# Altium footprint library lab_1_kapustin_usb_spi.PcbLib: 13 footprints
Each footprint in its own frame and in the unit in brackets; x right, y up, seen from the top. Pads: shape width x height; smd on the part's side, far side on the other; paste and mask are expansions set on the pad; w line width, h text height; cw(c..) or ccw(c..) is an arc to the next point about the centre after c.
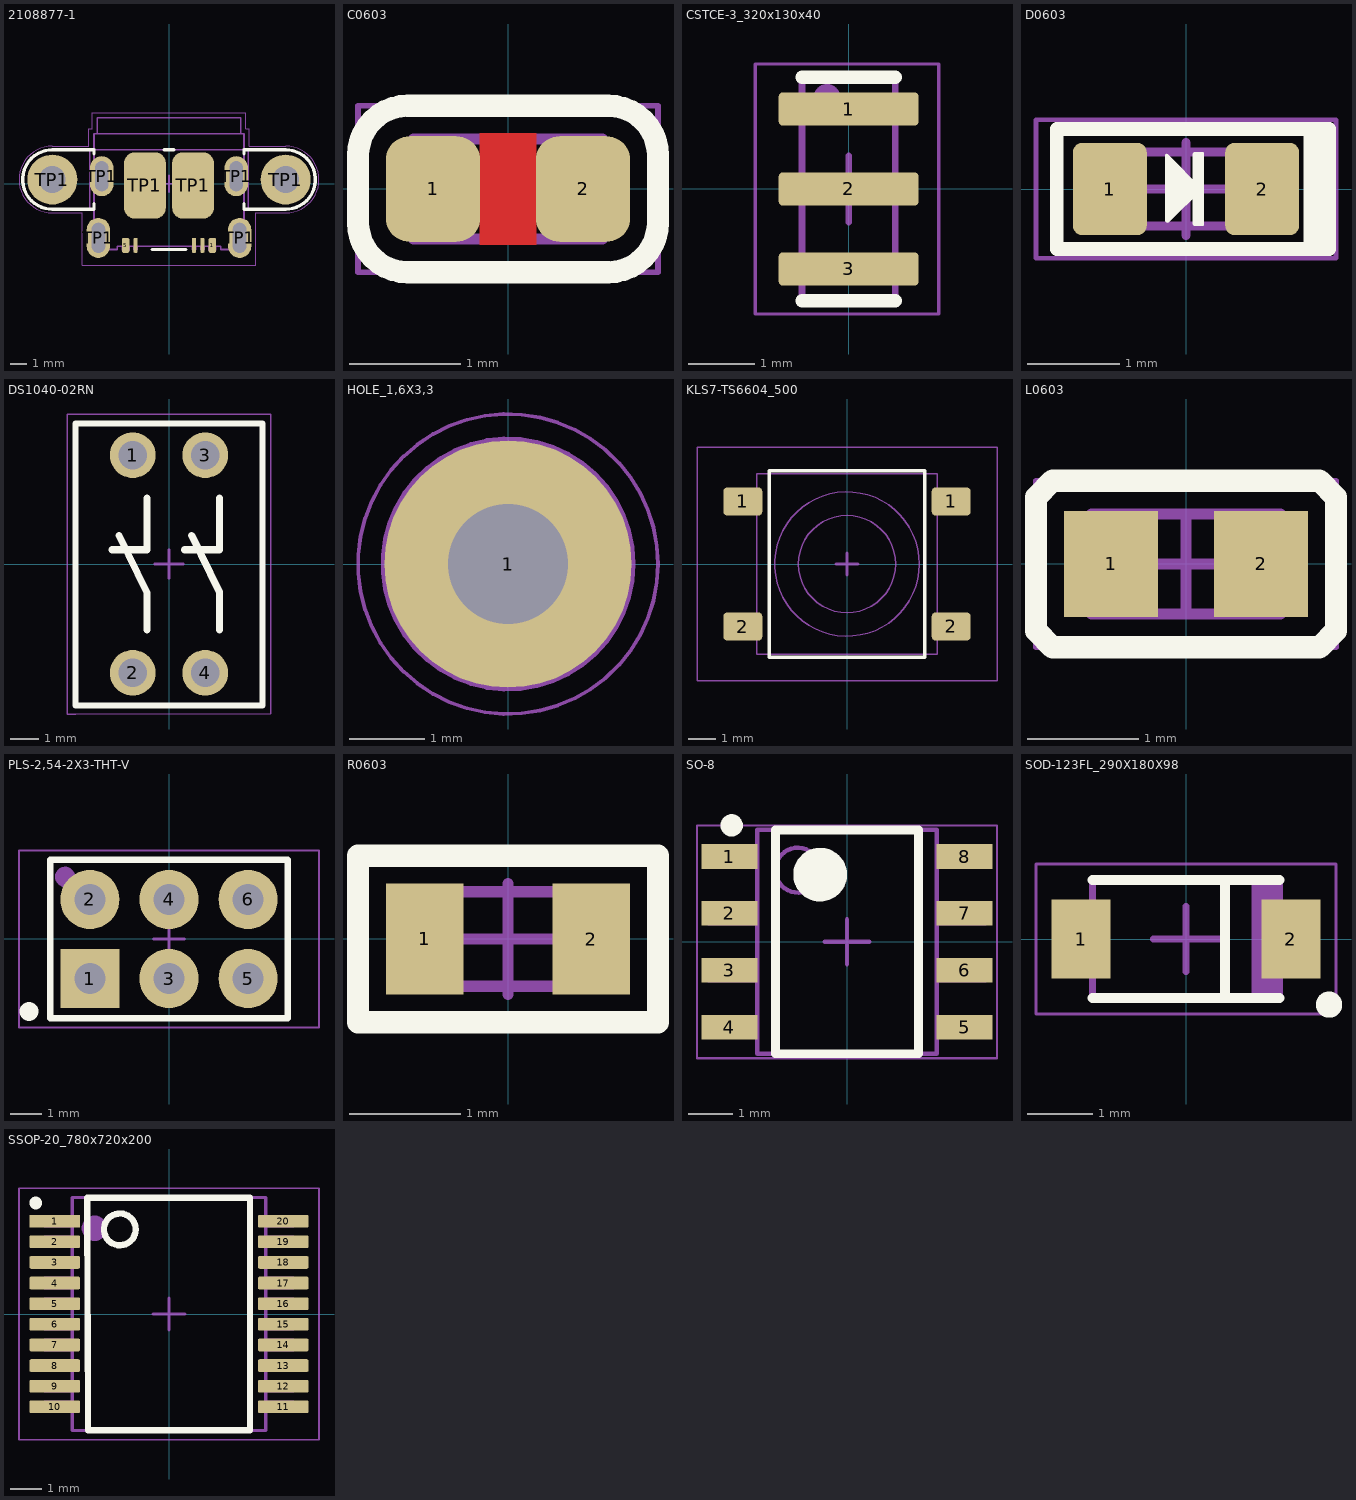
[diagram p0: the footprints below, top view; thin cyan lines are the x and y axes]

## 2108877-1 [mm] "Micro USB-B, Flanged"
height 3.4
pads (13):
  rrect50% 0.45x0.9 smd: 1(2.6,-3.696) 5(-2.6,-3.696)
  rrect50% 0.25x0.9 smd: 2(2,-3.696) 3(1.5,-3.696) 4(-2,-3.696)
  round 3 hole 1.6: TP1(-7,0.25) TP1(7,0.25)
  oval 1.4x2.4 hole 0.8 slot 1.8 at 90 deg mask+0.102: TP1(-4.235,-3.25) TP1(-4.035,0.45) TP1(4.035,0.45) TP1(4.235,-3.25)
  rrect50% 2.5x3.98 smd: TP1(-1.441,-0.104) TP1(1.441,-0.104)
Top Overlay:
  lines w0.2: -4.496,-1.21 -4.496,-1.532 -7,-1.532 cw(c-7,0.25) -7,2.032 -4.496,2.032 ; -4.496,1.778 -4.496,2.032 ; -1.016,-3.95 0,-3.95 1.016,-3.95 ; -0.279,2.032 0,2.032 0.279,2.032 ; 4.496,-1.21 4.496,-1.532 7,-1.532 ccw(c7,0.25) 7,2.032 4.496,2.032 ; 4.496,1.778 4.496,2.032 ; -4.496,2.032 -4.496,2.032 ; 4.496,2.032 4.496,2.032
Top Comment (Mech7):
  text ".Comment" at -2.125,-1.575 h1.2
Top Designator:
  text ".Designator" at -2.325,0.975 h1.2
Top Component Outline:
  circle w0.1: c-7,0.25 r0.8
  circle w0.1: c7,0.25 r0.8
  lines w0.1: -4.75,-1.532 -4.75,2.032 ; -4.295,2.997 -4.295,3.962 4.295,3.962 4.295,2.997 ; -2.8,-3.75 -2.8,-3.975 -2.4,-3.975 -2.4,-3.75 ; -2.1,-3.75 -2.1,-3.95 -1.9,-3.95 -1.9,-3.75 ; 1.4,-3.75 1.4,-3.95 1.6,-3.95 1.6,-3.75 ; 1.9,-3.75 1.9,-3.95 2.1,-3.95 2.1,-3.75 ; 2.4,-3.75 2.4,-3.975 2.8,-3.975 2.8,-3.75 ; 4.75,-1.532 4.75,2.032 ; -4.496,-1.532 -4.496,2.997 4.496,2.997 4.496,-1.532 ; -4.496,-1.532 -4.496,-3.95 -3.1,-3.95 -3.1,-3.75 0,-3.75 3.1,-3.75 3.1,-3.95 4.496,-3.95 4.496,-1.532 ; -4.496,-1.532 -7,-1.532 cw(c-7,0.25) -7,2.032 7,2.032 cw(c7,0.25) 7,-1.532 4.496,-1.532 ; -4.496,2.032 -4.496,2.032 ; -4.496,2.032 -4.496,2.032
Top Courtyard:
  lines w0.05: -7,-1.75 cw(c-7,0.25) -7,2.25 -4.801,2.25 -4.801,3.302 -4.6,3.302 -4.6,4.255 0,4.255 4.6,4.255 4.6,3.302 4.801,3.302 4.801,2.25 7,2.25 cw(c7,0.25) 7,-1.75 5.207,-1.75 5.207,-4.889 0,-4.889 -5.207,-4.89 -5.207,-1.75 -7,-1.75
  lines w0.1: -0.5,0 0.5,0 ; 0,-0.5 0,0.5
3D body "2108877-1-b-3d(micro usb-b flanged).stp": height 3.39, standoff -0.64, extent -8.9,-3.95 8.9,3.95

## C0603 [mm] "Chip Capacitor, 2-Leads, Body 1,60x0,80mm, IPC Medium Density"
height 0.9
pads (2):
  rrect50% 0.85x0.95 smd: 1(-0.675,0) 2(0.675,0)
Top Layer:
  pour cut-out: -0.254,0.5 -0.254,-0.5 0.254,-0.5 0.254,0.5
Top Overlay:
  lines w0.2: -0.9,-0.75 0.9,-0.75 ccw(c0.9,-0.3) 1.35,-0.3 1.35,0.3 ccw(c0.9,0.3) 0.9,0.75 ; -0.9,-0.75 cw(c-0.9,-0.3) -1.35,-0.3 -1.35,0.3 cw(c-0.9,0.3) -0.9,0.75 0.9,0.75
Top Comment (Mech7):
  text ".Comment" at 1.524,-0.687 h1
Top Designator:
  text ".Designator" at 1.524,0.075 h1
Top Component Outline:
  lines w0.1: -0.85,-0.45 0.85,-0.45 0.85,0.45 -0.85,0.45 -0.85,-0.45
Top Courtyard:
  lines w0.05: -1.35,-0.75 -1.35,0.75 1.35,0.75 1.35,-0.75 -1.35,-0.75
  lines w0.1: -0.45,0 0.45,0 ; 0,-0.45 0,0.45
3D body: height 0.9, standoff 0, extent 0.5,-0.45 0.85,0.45
3D body: height 0.9, standoff 0, extent -0.85,-0.45 -0.5,0.45
3D body: height 0.9, standoff 0, extent -0.5,-0.45 0.5,0.45

## CSTCE-3_320x130x40 [mm] "CSTCE_G15C/CSTCE_G/CSTCE_G_Z"
height 0.4
pads (3):
  rrect25% 2.1x0.5 smd paste-0.025 mask+0.1: 1(0,1.2) 2(0,0) 3(0,-1.2)
Top Overlay:
  lines w0.2: -0.7,-1.675 0.7,-1.675 ; -0.7,1.675 0.7,1.675
Top Comment (Mech7):
  text ".Comment" at -0.75,-0.95 h1.2
Top Designator:
  text ".Designator" at -0.725,0.425 h1.2
Top Component Outline:
  circle w0.2: c-0.325,1.375 r0.1
  lines w0.1: -0.7,-1.675 -0.7,1.675 0.7,1.675 0.7,-1.675 -0.7,-1.675
Top Courtyard:
  lines w0.05: -1.4,-1.875 -1.4,1.875 1.35,1.875 1.35,-1.875 -1.4,-1.875
  lines w0.1: -0.5,0 0.5,0 ; 0,-0.5 0,0.5
3D body: height 0.75, standoff 0, extent -0.7,-1.675 0.7,1.675

## D0603 [mm]
height 0.6
pads (2):
  rrect25% 0.8x1 smd paste-10 mask+0.1: 1(-0.825,0) 2(0.825,0)
Top Overlay:
  rectangle: 1.275,-0.65 1.55,0.65
  region: 0.1,0.4 0.175,0.4 0.179,0.4 0.186,0.397 0.192,0.391 0.195,0.384 0.195,0.38 0.195,-0.38 0.195,-0.384 0.192,-0.391 0.186,-0.397 0.179,-0.4 0.175,-0.4 0.1,-0.4 0.095,-0.4 0.086,-0.396 0.079,-0.389 0.075,-0.38 0.075,-0.375 0.075,0.375 0.075,0.38 0.079,0.389 0.086,0.396 0.095,0.4
  region: -0.182,-0.357 0.175,0 -0.2,0.375 -0.203,0.378 -0.212,0.38 -0.22,0.377 -0.225,0.369 -0.225,0.365 -0.225,-0.34 -0.225,-0.347 -0.217,-0.36 -0.203,-0.366 -0.188,-0.363
  lines w0.15: -1.4,-0.65 1.55,-0.65 1.55,0.65 -1.4,0.65 -1.4,-0.65
Top Paste:
  region: 0.519,0.475 1.045,0.475 1.071,0.475 1.119,0.455 1.155,0.419 1.175,0.371 1.175,0.345 1.175,-0.395 1.175,-0.411 1.163,-0.44 1.14,-0.463 1.111,-0.475 1.095,-0.475 0.524,-0.475 0.512,-0.475 0.489,-0.464 0.474,-0.444 0.469,-0.42 0.472,-0.407 0.575,0 0.471,0.413 0.468,0.424 0.473,0.447 0.487,0.465 0.507,0.475
  region: -0.519,-0.475 -1.045,-0.475 -1.071,-0.475 -1.119,-0.455 -1.155,-0.419 -1.175,-0.371 -1.175,-0.345 -1.175,0.395 -1.175,0.411 -1.163,0.44 -1.14,0.463 -1.111,0.475 -1.095,0.475 -0.524,0.475 -0.512,0.475 -0.489,0.464 -0.474,0.444 -0.469,0.42 -0.472,0.407 -0.575,0 -0.471,-0.413 -0.468,-0.424 -0.473,-0.447 -0.487,-0.465 -0.507,-0.475
Top Comment (Mech7):
  text ".Comment" at -1.651,-1.651 h1.2
Top Designator:
  text ".Designator" at -1.572,1.016 h1.2
Top Component Outline:
  rectangle: 0.55,-0.4 0.8,0.4
  lines w0.1: -0.775,-0.4 -0.775,0.4 ; -0.75,-0.4 0.8,-0.4 0.8,0.4 -0.75,0.4
Top Courtyard:
  lines w0.05: -1.625,-0.75 -1.625,0.75 1.625,0.75 1.625,-0.75 -1.625,-0.75
  lines w0.1: -0.5,0 0.5,0 ; 0,-0.5 0,0.5
3D body "alsrobot-LED0603(G).STEP": height 0.6, standoff 0, extent -0.81,-0.4 0.81,0.4

## DS1040-02RN [mm]
height 6
pads (4):
  round 1.6 hole 1: 1(-1.27,3.81) 2(-1.27,-3.81) 3(1.27,3.81) 4(1.27,-3.81)
Top Overlay:
  lines w0.2: -3.27,-4.95 3.27,-4.95 3.27,4.92 -3.27,4.92 -3.27,-4.95
  lines w0.25: -2,0.5 -0.77,0.5 -0.77,2.31 ; -1.75,1 -0.77,-1 -0.77,-2.31 ; 0.54,0.5 1.77,0.5 1.77,2.31 ; 0.79,1 1.77,-1 1.77,-2.31
Top Comment (Mech7):
  text ".Comment" at -2.286,-1.143 h1.2
Top Designator:
  text ".Designator" at -2.45,0.7 h1.2
Top Component Outline:
  lines w0.1: -3.27,-4.95 -3.27,4.925 3.27,4.925 3.27,-4.95 -3.27,-4.95
Top Courtyard:
  lines w0.05: -3.57,-5.25 -3.57,-4.95 -3.57,5.25 3.27,5.25 3.57,5.25 3.57,4.95 3.57,-5.25 -3.27,-5.25 -3.57,-5.25
  lines w0.1: -0.5,0 0,0 ; 0,-0.5 0,0 ; 0,0.5 0,0 ; 0.5,0 0,0
3D body "DS1040-02.step": height 6.8, standoff -3.85, extent -3.27,-4.95 3.27,4.95

## HOLE_1,6X3,3 [mm]
height 8
pads (1):
  round 3.3 hole 1.6: 1(0,0)
Top Component Outline:
  circle w0.1: c0,0 r0.8
  circle w0.1: c0,0 r1.65
Top Courtyard:
  circle w0.05: c0,0 r2
  lines w0.1: -0.5,0 0.5,0 ; 0,-0.5 0,0.5

## KLS7-TS6604_500 [mm] "6.5x6.5mm SMD tact switch 5mm stem"
height 4
pads (4):
  rrect25% 1.4x1 smd: 1(-3.75,2.25) 1(3.75,2.25) 2(-3.75,-2.25) 2(3.75,-2.25)
Top Overlay:
  lines w0.127: -2.794,-3.35 -2.794,3.35 2.794,3.35 2.794,-3.35 -2.794,-3.35
Top Comment (Mech7):
  text ".Comment" at -1.651,-3.175 h1.2
Top Designator:
  text ".Designator" at -1.657,2.18 h1.2
Top Component Outline:
  circle w0.05: c0,0 r2.6
  circle w0.05: c0,-0.002 r1.75
  lines w0.05: -3.253,-2.6 -3.253,-1.9 ; -3.253,1.9 -3.253,2.6 ; -3.25,-2.6 -4,-2.6 -4,-1.9 -3.25,-1.9 ; -3.25,1.9 -4,1.9 -4,2.6 -3.25,2.6 ; 3.25,-2.6 4,-2.6 4,-1.9 3.25,-1.9 ; 3.25,1.9 4,1.9 4,2.6 3.25,2.6 ; 3.253,-2.6 3.253,-1.9 ; 3.253,1.9 3.253,2.6 ; -3.25,-3.25 -3.25,3.25 3.25,3.25 3.25,-3.25 -3.25,-3.25
Top Courtyard:
  lines w0.05: -5.4,-4.2 5.4,-4.2 5.4,4.2 -5.4,4.2 -5.4,-4.2
  lines w0.1: -0.4,0 0.4,0 ; 0,-0.4 0,0.4
3D body "TS-1143S-WP.STEP": height 4.3, standoff 0, extent -4,-3.25 4,3.25

## L0603 [mm]
height 0.8
pads (2):
  rect 0.85x0.95 smd: 1(-0.675,0) 2(0.675,0)
Top Overlay:
  lines w0.2: -1.35,-0.6 -1.35,0.6 -1.2,0.75 1.2,0.75 1.35,0.6 1.35,-0.6 1.2,-0.75 -1.2,-0.75 -1.35,-0.6
Top Comment (Mech7):
  text ".Comment" at -0.762,-1.524 h1
Top Designator:
  text ".Designator" at -0.762,0.889 h1
Top Component Outline:
  lines w0.1: -0.85,-0.45 -0.85,0.45 0.85,0.45 0.85,-0.45 -0.85,-0.45
Top Courtyard:
  lines w0.05: -1.35,-0.75 1.35,-0.75 1.35,0.75 -1.35,0.75 -1.35,-0.75
  lines w0.1: -0.45,0 0.45,0 ; 0,-0.45 0,0.45
3D body: height 0.9, standoff 0, extent -0.5,-0.45 0.5,0.45
3D body: height 0.9, standoff 0, extent -0.85,-0.45 -0.5,0.45
3D body: height 0.9, standoff 0, extent 0.5,-0.45 0.85,0.45

## PLS-2,54-2X3-THT-V [mm] "PLS-2x3"
height 11.5
pads (6):
  rect 1.9x1.9 hole 1: 1(-2.54,-1.27)
  round 1.9 hole 1: 2(-2.54,1.27) 3(0,-1.27)
  round 1.9 hole 1 mask+0.102: 4(0,1.27) 5(2.54,-1.27) 6(2.54,1.27)
Top Overlay:
  circle w0.6: c-4.495,-2.325 r0.001
  lines w0.2: 3.81,-2.545 -3.815,-2.545 -3.815,2.545 3.815,2.545 3.815,-2.545
Top Comment (Mech7):
  text ".Comment" at -1.775,-1.375 h1.2
Top Designator:
  text ".Designator" at -2.175,1 h1.2
Top Component Outline:
  circle w0.35: c-3.335,1.995 r0.15
  lines w0.1: 3.81,-2.545 -3.815,-2.545 -3.815,2.545 3.815,2.545 3.815,-2.545
Top Courtyard:
  lines w0.05: -4.815,-2.84 4.815,-2.84 4.815,2.84 -4.815,2.84 -4.815,-2.84
  lines w0.1: -0.5,0 0.5,0 ; 0,-0.5 0,0.5
3D body "DS1021-1x3SF112 (PLS-3).STEP": height 8.59, standoff -2.95, extent -3.81,0 3.81,2.54
3D body "DS1021-1x3SF112 (PLS-3).STEP": height 8.59, standoff -2.95, extent -3.81,-2.54 3.81,0

## R0603 [mm]
height 0.45
pads (2):
  rect 0.7x1 smd: 1(-0.75,0) 2(0.75,0)
Top Overlay:
  lines w0.2: -1.35,-0.75 1.35,-0.75 1.35,0.75 -1.35,0.75 -1.35,-0.75
Top Comment (Mech7):
  text ".Comment" at 1.524,-0.687 h1
Top Designator:
  text ".Designator" at 1.524,0.075 h1
Top Component Outline:
  lines w0.1: -0.8,-0.425 -0.8,0.425 0.8,0.425 0.8,-0.425 -0.8,-0.425
Top Courtyard:
  lines w0.05: -1.35,-0.75 1.35,-0.75 1.35,0.75 -1.35,0.75 -1.35,-0.75
  lines w0.1: -0.5,0 0.5,0 ; 0,-0.5 0,0.5
3D body: height 0.45, standoff 0, extent -0.5,-0.425 0.5,0.425
3D body: height 0.45, standoff 0, extent -0.8,-0.425 -0.5,0.425
3D body: height 0.45, standoff 0, extent 0.5,-0.425 0.8,0.425

## SO-8 [mm]
height 0.45
pads (8):
  rect 1.25x0.55 smd: 1(-2.625,1.905) 2(-2.625,0.635) 3(-2.625,-0.635) 4(-2.625,-1.905) 5(2.625,-1.905) 6(2.625,-0.635) 7(2.625,0.635) 8(2.625,1.905)
Top Overlay:
  circle w0.6: c-0.6,1.5 r0.3
  circle w0.25: c-2.575,2.6 r0.125
  lines w0.2: -1.6,-2.5 1.6,-2.5 1.6,2.5 -1.6,2.5 -1.6,-2.5
Top Comment (Mech7):
  text ".Comment" at -1.875,2.125 h1.2
Top Designator:
  text ".Designator" at -1.875,2.875 h1.2
Top Component Outline:
  circle w0.1: c-1.1,1.6 r0.5
  lines w0.1: -2,-2.125 -3.1,-2.125 -3.1,-1.685 -2,-1.685 ; -2,-0.855 -3.1,-0.855 -3.1,-0.415 -2,-0.415 ; -2,0.415 -3.1,0.415 -3.1,0.855 -2,0.855 ; -2,1.685 -3.1,1.685 -3.1,2.125 -2,2.125 ; 2,-2.125 3.1,-2.125 3.1,-1.685 2,-1.685 ; 2,-0.855 3.1,-0.855 3.1,-0.415 2,-0.415 ; 2,0.415 3.1,0.415 3.1,0.855 2,0.855 ; 2,1.685 3.1,1.685 3.1,2.125 2,2.125 ; -2,-2.5 2,-2.5 2,2.5 -2,2.5 -2,-2.5
Top Courtyard:
  lines w0.05: -3.35,-2.6 3.35,-2.6 3.35,2.6 -3.35,2.6 -3.35,-2.6
  lines w0.1: -0.5,0 0.5,0 ; 0,-0.5 0,0.5
3D body "User Library-SOIC-8-150.STEP": height 1.75, standoff 0, extent -3.1,-2.5 3.1,2.5

## SOD-123FL_290X180X98 [mm]
height 8
pads (2):
  rect 0.9x1.2 smd: 1(-1.6,0) 2(1.6,0)
Top Overlay:
  circle w0.2: c2.18,-1 r0.1
  lines w0.15: -1.425,-0.9 1.425,-0.9 ; -1.425,0.9 1.425,0.9 ; 0.595,-0.9 0.595,0.9
Top Comment (Mech7):
  text ".Comment" at 2.413,-0.635 h1.2
Top Designator:
  text ".Designator" at 2.413,0.254 h1.2
Top Component Outline:
  lines w0.1: -1.425,-0.35 -1.925,-0.35 -1.925,0.35 -1.425,0.35 ; 1.045,-0.9 1.045,0.9 ; 1.14,-0.9 1.14,0.9 ; 1.235,-0.9 1.235,0.9 ; 1.33,-0.9 1.33,0.9 ; 1.425,-0.35 1.925,-0.35 1.925,0.35 1.425,0.35 ; -1.425,-0.9 1.425,-0.9 1.425,0.9 -1.425,0.9 -1.425,-0.9
Top Courtyard:
  lines w0.05: -2.286,-1.143 2.286,-1.143 2.286,1.143 -2.286,1.143 -2.286,0.889 -2.286,-1.143
  lines w0.1: -0.5,0 0.5,0 ; 0,-0.5 0,0.5
3D body "SOT-123.step": height 1.12, standoff -0.03, extent -1.825,-0.825 1.875,0.775

## SSOP-20_780x720x200 [mm] "SSOP-20, 7,8mm x 7,2mm, pitch 0,65mm"
height 2
pads (20):
  rect 1.6x0.4 smd paste-0.025 mask+0.05: 1(-3.6,2.925)
  rrect25% 1.6x0.4 smd paste-0.025 mask+0.05: 2(-3.6,2.275) 3(-3.6,1.625) 4(-3.6,0.975) 5(-3.6,0.325) 6(-3.6,-0.325) 7(-3.6,-0.975) 8(-3.6,-1.625) 9(-3.6,-2.275) 10(-3.6,-2.925) 11(3.6,-2.925) 12(3.6,-2.275) 13(3.6,-1.625) 14(3.6,-0.975) 15(3.6,-0.325) 16(3.6,0.325) 17(3.6,0.975) 18(3.6,1.625) 19(3.6,2.275) 20(3.6,2.925)
Top Overlay:
  circle w0.4: c-4.2,3.5 r0.001
  circle w0.2: c-1.55,2.665 r0.5
  lines w0.2: -2.576,3.665 -2.55,-3.665 2.55,-3.665 2.55,3.665 -2.55,3.665
Top Comment (Mech7):
  text ".Comment" at -2.125,-1.575 h1.2
Top Designator:
  text ".Designator" at -2.325,0.975 h1.2
Top Component Outline:
  circle w0.4: c-2.35,2.7 r0.2
  lines w0.1: -3.05,-3.075 -3.925,-3.075 -3.925,-2.775 -3.05,-2.775 ; -3.05,-2.425 -3.925,-2.425 -3.925,-2.125 -3.05,-2.125 ; -3.05,-1.775 -3.925,-1.775 -3.925,-1.475 -3.05,-1.475 ; -3.05,-1.125 -3.925,-1.125 -3.925,-0.825 -3.05,-0.825 ; -3.05,-0.475 -3.925,-0.475 -3.925,-0.175 -3.05,-0.175 ; -3.05,0.175 -3.925,0.175 -3.925,0.475 -3.05,0.475 ; -3.05,0.825 -3.925,0.825 -3.925,1.125 -3.05,1.125 ; -3.05,1.475 -3.925,1.475 -3.925,1.775 -3.05,1.775 ; -3.05,2.125 -3.925,2.125 -3.925,2.425 -3.05,2.425 ; -3.05,2.775 -3.925,2.775 -3.925,3.075 -3.05,3.075 ; 3.05,-3.075 3.925,-3.075 3.925,-2.775 3.05,-2.775 ; 3.05,-2.425 3.925,-2.425 3.925,-2.125 3.05,-2.125 ; 3.05,-1.775 3.925,-1.775 3.925,-1.475 3.05,-1.475 ; 3.05,-1.125 3.925,-1.125 3.925,-0.825 3.05,-0.825 ; 3.05,-0.475 3.925,-0.475 3.925,-0.175 3.05,-0.175 ; 3.05,0.175 3.925,0.175 3.925,0.475 3.05,0.475 ; 3.05,0.825 3.925,0.825 3.925,1.125 3.05,1.125 ; 3.05,1.475 3.925,1.475 3.925,1.775 3.05,1.775 ; 3.05,2.125 3.925,2.125 3.925,2.425 3.05,2.425 ; 3.05,2.775 3.925,2.775 3.925,3.075 3.05,3.075 ; -3.05,-3.665 3.05,-3.665 3.05,3.665 -3.05,3.665 -3.05,-3.665
Top Courtyard:
  lines w0.05: -4.725,-3.965 4.725,-3.965 4.725,3.965 -4.725,3.965 -4.725,-3.965
  lines w0.1: -0.5,0 0.5,0 ; 0,-0.5 0,0.5
3D body "SSOP-20.step": height 1.98, standoff -0.01, extent -3.95,-3.665 3.95,3.665